# Altium schematic symbol library Opto.SchLib: 37 symbols
Pins are listed as number, name and electrical type; pins without a type are passive.

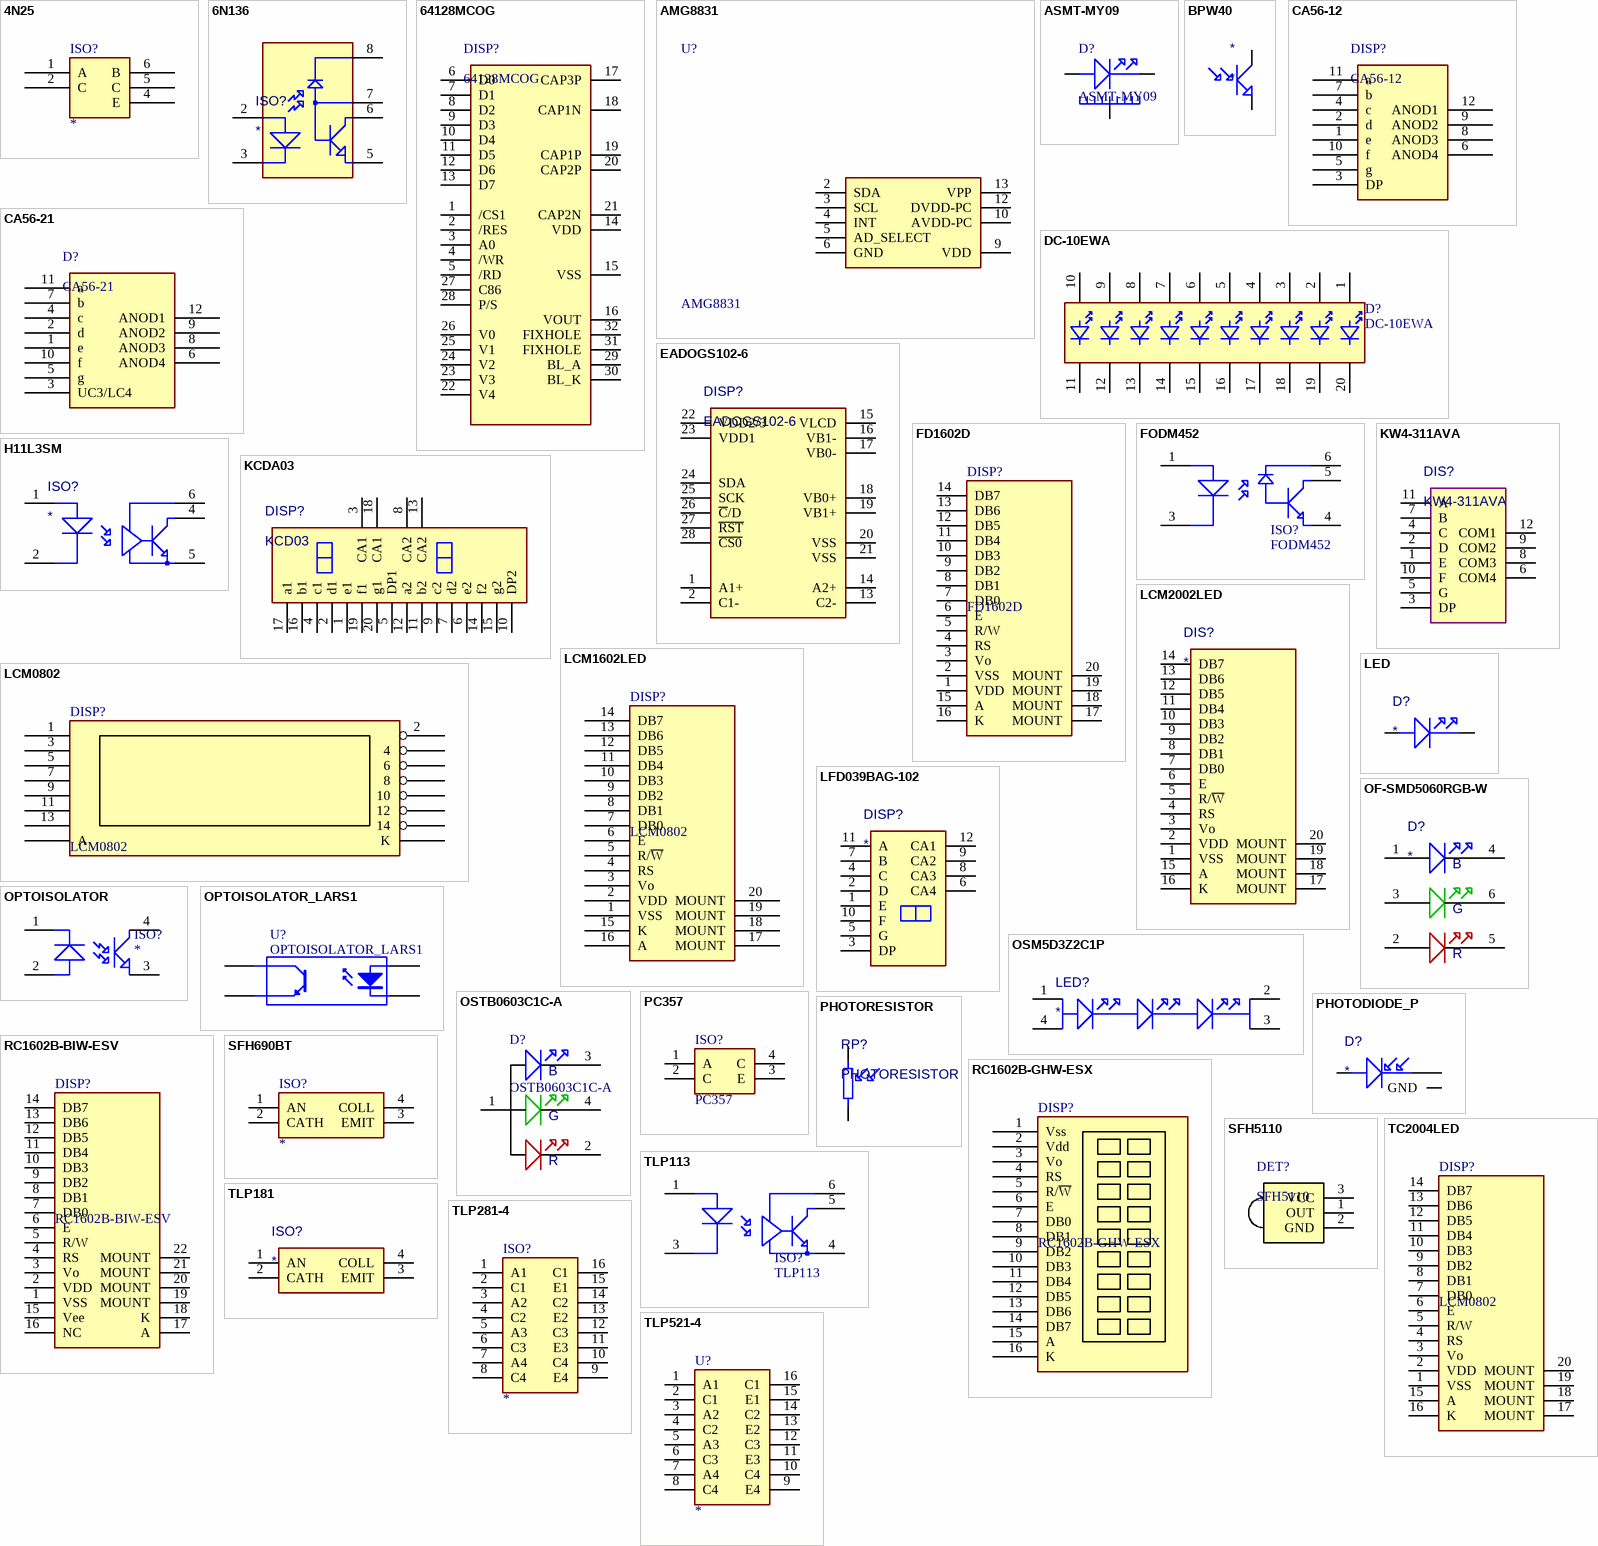
[diagram p0: symbols 4N25 to TLP521-4]

## 4N25
designator ISO?
Value: 4N25
pins: 1 A, 2 C, 4 E, 5 C, 6 B

## 6N136
designator ISO?
Value: *
pins: 2 ANOD, 3 CATH, 5 EMIT, 6 COLL, 7 BASE, 8 VCC

## 64128MCOG
designator DISP?
Value: 64128MCOG
pins: 1 /CS1, 2 /RES, 3 A0, 4 /WR, 5 /RD, 6 D0, 7 D1, 8 D2, 9 D3, 10 D4, 11 D5, 12 D6, 13 D7, 14 VDD, 15 VSS, 16 VOUT, 17 CAP3P, 18 CAP1N, 19 CAP1P, 20 CAP2P, 21 CAP2N, 22 V4, 23 V3, 24 V2, 25 V1, 26 V0, 27 C86, 28 P/S, 29 BL_A, 30 BL_K, 31 FIXHOLE, 32 FIXHOLE

## AMG8831
designator U?
Value: AMG8831
pins: 2 SDA, 3 SCL, 4 INT, 5 AD_SELECT, 6 GND, 9 VDD, 10 AVDD-PC, 12 DVDD-PC, 13 VPP (power)

## ASMT-MY09
designator D?
Value: ASMT-MY09
pins: 2 HEAT, ANOD, CATH

## BPW40
designator *
pins: COLL CATH, EMIT ANOD

## CA56-12
designator DISP?
Value: CA56-12
pins: 1 e, 2 d, 3 DP, 4 c, 5 g, 6 ANOD4, 7 b, 8 ANOD3, 9 ANOD2, 10 f, 11 a, 12 ANOD1

## CA56-21
designator D?
Value: CA56-21
pins: 1 e, 2 d, 3 UC3/LC4, 4 c, 5 g, 6 ANOD4, 7 b, 8 ANOD3, 9 ANOD2, 10 f, 11 a, 12 ANOD1

## DC-10EWA
designator D?
Value: DC-10EWA
pins: 1, 2, 3, 4, 5, 6, 7, 8, 9, 10, 11, 12, 13, 14, 15, 16, 17, 18, 19, 20

## EADOGS102-6
designator DISP?
Value: EADOGS102-6
pins: 1 A1+, 2 C1-, 13 C2-, 14 A2+, 15 VLCD, 16 VB1-, 17 VB0-, 18 VB0+, 19 VB1+, 20 VSS, 21 VSS, 22 VDD2/3, 23 VDD1, 24 SDA, 25 SCK, 26 ~{C}/D, 27 ~{RST}, 28 ~{CS0}

## FD1602D
designator DISP?
Value: FD1602D
pins: 1 VDD, 2 VSS, 3 Vo, 4 RS, 5 R/W, 6 E, 7 DB0, 8 DB1, 9 DB2, 10 DB3, 11 DB4, 12 DB5, 13 DB6, 14 DB7, 15 A, 16 K, 17 MOUNT, 18 MOUNT, 19 MOUNT, 20 MOUNT

## FODM452
designator ISO?
Value: FODM452
pins: 1 ANOD, 3 CATH, 4 EMIT, 5 COLL, 6 VCC

## H11L3SM
designator ISO?
Value: *
pins: 1 ANOD, 2 CATH, 4 COLL, 5 EMIT, 6 VCC

## KCDA03
designator DISP?, comment KCD03
Value: KCD03
pins: 1 e1, 2 d1, 3 CA1, 4 c1, 5 DP1, 6 e2, 7 d2, 8 CA2, 9 c2, 10 DP2, 11 b2, 12 a2, 13 CA2, 14 f2, 15 g2, 16 b1, 17 a1, 18 CA1, 19 f1, 20 g1

## KW4-311AVA
designator DIS?
Value: KW4-311AVA
pins: 1 E, 2 D, 3 DP, 4 C, 5 G, 6 COM4, 7 B, 8 COM3, 9 COM2, 10 F, 11 A, 12 COM1

## LCM0802
designator DISP?
Value: LCM0802
footprint LCM0802 (Footprint not found)
pins: 1, 2, 3, 4, 5, 6, 7, 8, 9, 10, 11, 12, 13, 14, A, K

## LCM1602LED
designator DISP?, comment LCM0802
Value: LCM0802
pins: 1 VSS, 2 VDD, 3 Vo, 4 RS, 5 R/~{W}, 6 E, 7 DB0, 8 DB1, 9 DB2, 10 DB3, 11 DB4, 12 DB5, 13 DB6, 14 DB7, 15 K, 16 A, 17 MOUNT, 18 MOUNT, 19 MOUNT, 20 MOUNT

## LCM2002LED
designator DIS?
Value: *
pins: 1 VSS, 2 VDD, 3 Vo, 4 RS, 5 R/~{W}, 6 E, 7 DB0, 8 DB1, 9 DB2, 10 DB3, 11 DB4, 12 DB5, 13 DB6, 14 DB7, 15 A, 16 K, 17 MOUNT, 18 MOUNT, 19 MOUNT, 20 MOUNT

## LED
designator D?
Value: *
pins: ANOD, CATH

## LFD039BAG-102
designator DISP?
Value: *
pins: 1 E, 2 D, 3 DP, 4 C, 5 G, 6 CA4, 7 B, 8 CA3, 9 CA2, 10 F, 11 A, 12 CA1

## OF-SMD5060RGB-W
designator D?
Value: *
pins: 1 ANOD, 2 ANOD, 3 ANOD, 4 CATH, 5 CATH, 6 CATH
text: B; G; R

## OPTOISOLATOR
designator ISO?
pins: 1 CATH, 2 ANOD, 3 EMIT, 4 COLL

## OPTOISOLATOR_LARS1
designator U?
Optoisolator; Value: OPTOISOLATOR_LARS1
pins: 1 A, 2 K, 3 E, 4 C

## OSM5D3Z2C1P
designator LED?
Value: *
pins: 1, 2, 3, 4

## OSTB0603C1C-A
designator D?
Value: OSTB0603C1C-A
pins: 1 ANOD, 2 CATH, 3 CATH, 4 CATH
text: B; G; R

## PC357
designator ISO?
Value: PC357
pins: 1 A, 2 C, 3 E, 4 C

## PHOTODIODE_P
designator D?
Value: *
pins: ANOD, CATH, GND

## PHOTORESISTOR
designator RP?
Value: PHOTORESISTOR
pins: 1, 2

## RC1602B-BIW-ESV
designator DISP?
Value: RC1602B-BIW-ESV
pins: 1 VSS, 2 VDD, 3 Vo, 4 RS, 5 R/W, 6 E, 7 DB0, 8 DB1, 9 DB2, 10 DB3, 11 DB4, 12 DB5, 13 DB6, 14 DB7, 15 Vee, 16 NC, 17 A, 18 K, 19 MOUNT, 20 MOUNT, 21 MOUNT, 22 MOUNT

## RC1602B-GHW-ESX
designator DISP?
Value: RC1602B-GHW-ESX
pins: 1 Vss, 2 Vdd, 3 Vo, 4 RS, 5 R/~{W}, 6 E, 7 DB0, 8 DB1, 9 DB2, 10 DB3, 11 DB4, 12 DB5, 13 DB6, 14 DB7, 15 A, 16 K

## SFH690BT
designator ISO?
Optocoupler; Mfr_Typ2: *; Mfr_Typ3: *; Price1: *; Price2: *; Price3: *; Reference1: *; Reference2: *; Reference3: *; Supplier1: *; Supplier2: *; Supplier3: *; Value: *
footprint SFH690BT
pins: 1 AN, 2 CATH, 3 EMIT, 4 COLL
1 alternate drawing of the same symbol

## SFH5110
designator DET?
Value: SFH5110
footprint SFH5110 (Footprint not found)
pins: 1 OUT, 2 GND, 3 VCC

## TC2004LED
designator DISP?, comment LCM0802
Value: LCM0802
pins: 1 VSS, 2 VDD, 3 Vo, 4 RS, 5 R/W, 6 E, 7 DB0, 8 DB1, 9 DB2, 10 DB3, 11 DB4, 12 DB5, 13 DB6, 14 DB7, 15 A, 16 K, 17 MOUNT, 18 MOUNT, 19 MOUNT, 20 MOUNT

## TLP113
designator ISO?
Value: TLP113
pins: 1 ANOD, 3 CATH, 4 EMIT, 5 COLL, 6 VCC

## TLP181
designator ISO?
Value: *
pins: 1 AN, 2 CATH, 3 EMIT, 4 COLL

## TLP281-4
designator ISO?
footprint 16SOIC175
pins: 1 A1, 2 C1, 3 A2, 4 C2, 5 A3, 6 C3, 7 A4, 8 C4, 9 E4, 10 C4, 11 E3, 12 C3, 13 E2, 14 C2, 15 E1, 16 C1

## TLP521-4
designator U?
footprint 16DIP300
pins: 1 A1, 2 C1, 3 A2, 4 C2, 5 A3, 6 C3, 7 A4, 8 C4, 9 E4, 10 C4, 11 E3, 12 C3, 13 E2, 14 C2, 15 E1, 16 C1